# Altium schematic symbol library ACS722.SCHLIB: 1 symbol
Pins are listed as number, name and electrical type; pins without a type are passive.

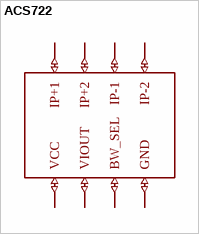
[diagram p0: symbol ACS722]

## ACS722
designator ?
GateName_1: G$1; SymbolName_1: ACS722; LibraryName: ACS722; DeviceSetName: ACS722; Package: SOIC-8
footprint SOIC-8
pins: BW_SEL (io), GND (io), IP+1 (io), IP+2 (io), IP-1 (io), IP-2 (io), VCC (io), VIOUT (io)